# EAGLE library part ATSAM3S1CB-AU (library ATSAM3S1CB-AU)
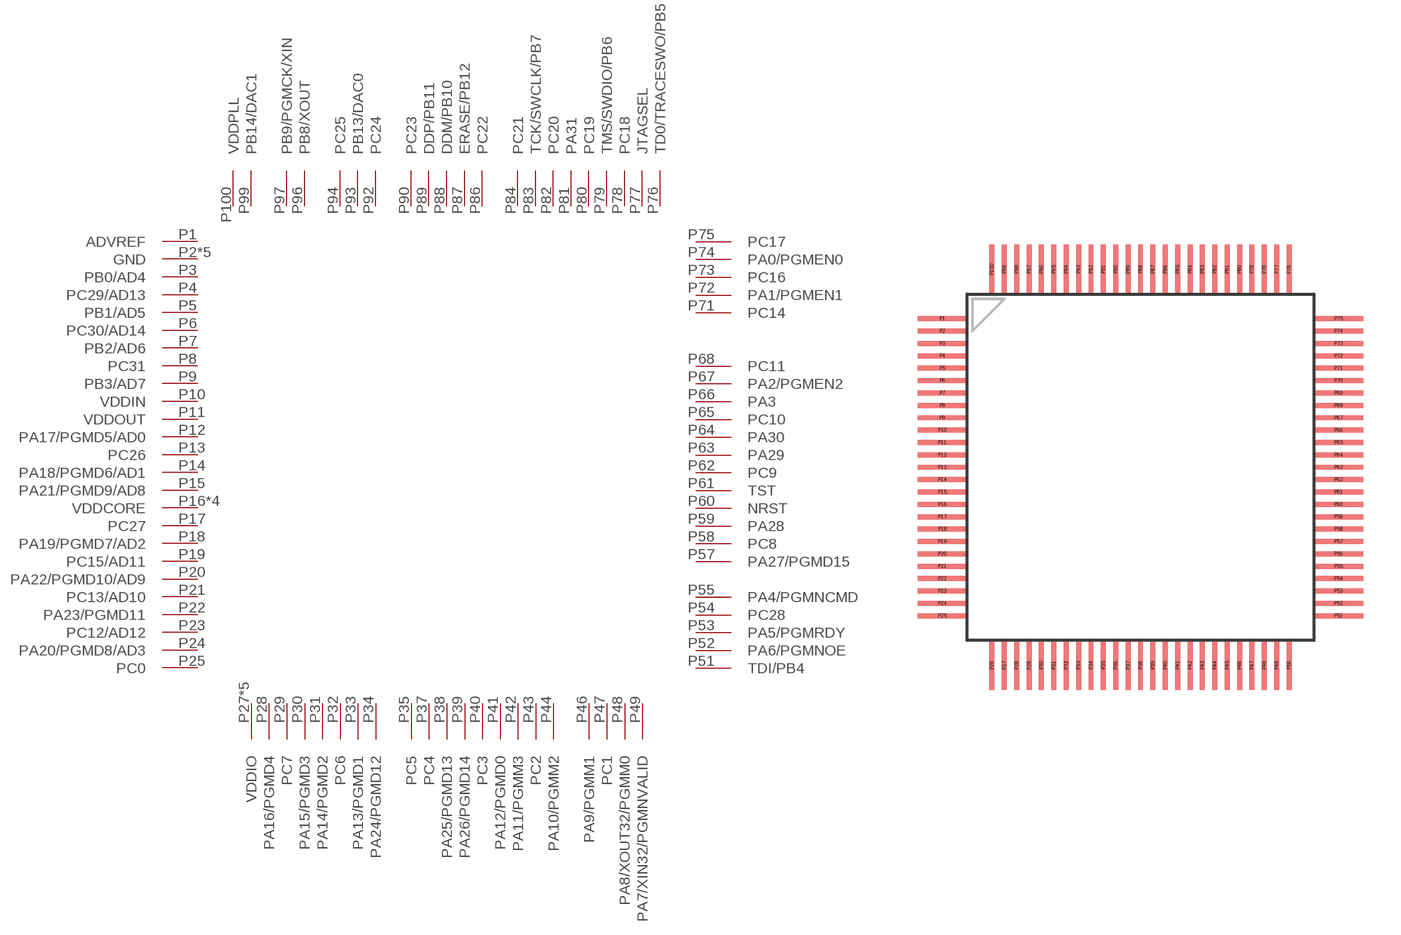
[diagram p0: symbol with the pads of QFP-100; footprint QFP-100]

Designator prefix -

## ATSAM3S1CB-AU  [QFP-100]
P1  ADVREF
P2  GND
P3  PB0/AD4
P4  PC29/AD13
P5  PB1/AD5
P6  PC30/AD14
P7  PB2/AD6
P8  PC31
P9  PB3/AD7
P10  VDDIN
P11  VDDOUT
P12  PA17/PGMD5/AD0
P13  PC26
P14  PA18/PGMD6/AD1
P15  PA21/PGMD9/AD8
P16  VDDCORE
P17  PC27
P18  PA19/PGMD7/AD2
P19  PC15/AD11
P20  PA22/PGMD10/AD9
P21  PC13/AD10
P22  PA23/PGMD11
P23  PC12/AD12
P24  PA20/PGMD8/AD3
P25  PC0
P26  GND
P27  VDDIO
P28  PA16/PGMD4
P29  PC7
P30  PA15/PGMD3
P31  PA14/PGMD2
P32  PC6
P33  PA13/PGMD1
P34  PA24/PGMD12
P35  PC5
P36  VDDCORE
P37  PC4
P38  PA25/PGMD13
P39  PA26/PGMD14
P40  PC3
P41  PA12/PGMD0
P42  PA11/PGMM3
P43  PC2
P44  PA10/PGMM2
P45  GND
P46  PA9/PGMM1
P47  PC1
P48  PA8/XOUT32/PGMM0
P49  PA7/XIN32/PGMNVALID
P50  VDDIO
P51  TDI/PB4
P52  PA6/PGMNOE
P53  PA5/PGMRDY
P54  PC28
P55  PA4/PGMNCMD
P56  VDDCORE
P57  PA27/PGMD15
P58  PC8
P59  PA28
P60  NRST
P61  TST
P62  PC9
P63  PA29
P64  PA30
P65  PC10
P66  PA3
P67  PA2/PGMEN2
P68  PC11
P69  VDDIO
P70  GND
P71  PC14
P72  PA1/PGMEN1
P73  PC16
P74  PA0/PGMEN0
P75  PC17
P76  TD0/TRACESWO/PB5
P77  JTAGSEL
P78  PC18
P79  TMS/SWDIO/PB6
P80  PC19
P81  PA31
P82  PC20
P83  TCK/SWCLK/PB7
P84  PC21
P85  VDDCORE
P86  PC22
P87  ERASE/PB12
P88  DDM/PB10
P89  DDP/PB11
P90  PC23
P91  VDDIO
P92  PC24
P93  PB13/DAC0
P94  PC25
P95  GND
P96  PB8/XOUT
P97  PB9/PGMCK/XIN
P98  VDDIO
P99  PB14/DAC1
P100  VDDPLL

## Footprint QFP-100 (pad centres in mm)
smd 2 x 0.2: P1 -8,6; P2 -8,5.5; P3 -8,5; P4 -8,4.5; P5 -8,4; P6 -8,3.5; P7 -8,3; P8 -8,2.5; P9 -8,2; P10 -8,1.5; P11 -8,1; P12 -8,0.5; P13 -8,0; P14 -8,-0.5; P15 -8,-1; P16 -8,-1.5; P17 -8,-2; P18 -8,-2.5; P19 -8,-3; P20 -8,-3.5; P21 -8,-4; P22 -8,-4.5; P23 -8,-5; P24 -8,-5.5; P25 -8,-6; P51 8,-6; P52 8,-5.5; P53 8,-5; P54 8,-4.5; P55 8,-4; P56 8,-3.5; P57 8,-3; P58 8,-2.5; P59 8,-2; P60 8,-1.5; P61 8,-1; P62 8,-0.5; P63 8,0; P64 8,0.5; P65 8,1; P66 8,1.5; P67 8,2; P68 8,2.5; P69 8,3; P70 8,3.5; P71 8,4; P72 8,4.5; P73 8,5; P74 8,5.5; P75 8,6
smd 0.2 x 2: P26 -6,-8; P27 -5.5,-8; P28 -5,-8; P29 -4.5,-8; P30 -4,-8; P31 -3.5,-8; P32 -3,-8; P33 -2.5,-8; P34 -2,-8; P35 -1.5,-8; P36 -1,-8; P37 -0.5,-8; P38 0,-8; P39 0.5,-8; P40 1,-8; P41 1.5,-8; P42 2,-8; P43 2.5,-8; P44 3,-8; P45 3.5,-8; P46 4,-8; P47 4.5,-8; P48 5,-8; P49 5.5,-8; P50 6,-8; P76 6,8; P77 5.5,8; P78 5,8; P79 4.5,8; P80 4,8; P81 3.5,8; P82 3,8; P83 2.5,8; P84 2,8; P85 1.5,8; P86 1,8; P87 0.5,8; P88 0,8; P89 -0.5,8; P90 -1,8; P91 -1.5,8; P92 -2,8; P93 -2.5,8; P94 -3,8; P95 -3.5,8; P96 -4,8; P97 -4.5,8; P98 -5,8; P99 -5.5,8; P100 -6,8